# Altium integrated library ST Audio Switch.IntLib: 6 symbols
Pins are listed as number, name and electrical type; pins without a type are passive.

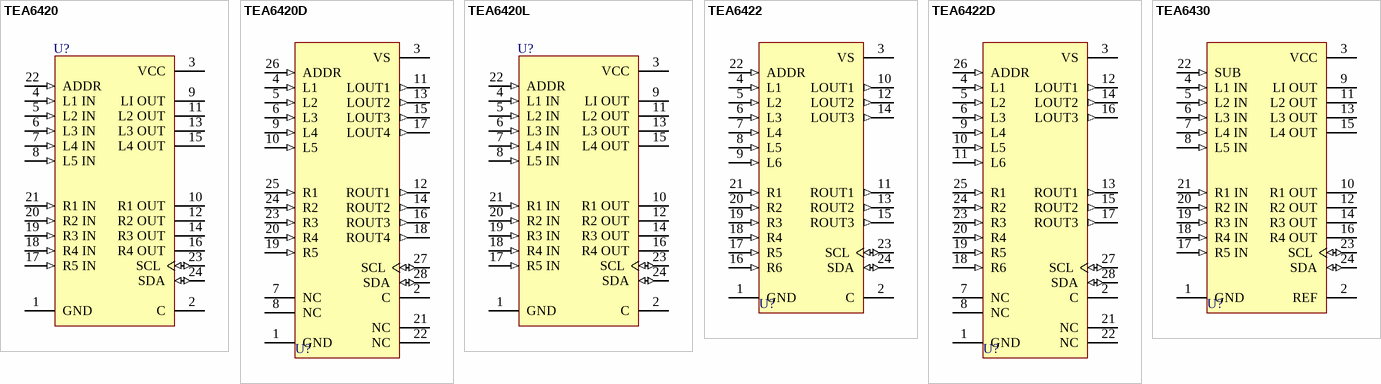
[diagram p0: symbols TEA6420 to TEA6430]

## TEA6420
designator U?
Bus-Controlled Audio Matrix; Published: 24-Aug-2001; LatestRevisionDate: 6-Jun-2005; LatestRevisionNote: Stylized 3D Model Added.; DatasheetDocument: May-1996; PackageDocument: Nov-1999; PackageReference: PSDIP24; Publisher: Altium Limited; ComponentLink1Description: Manufacturer Link; ComponentLink1URL: http://www.st.com/; ComponentLink2Description: Datasheet; ComponentLink2URL: http://www.st.com/stonline/products/literature/ds/9764/tea6420.pdf
footprint PSDIP24 (DIP; 24 Leads; Row Spacing 7.62 mm; Pitch 1.778 mm)
3D model PSDIP24 (DIP; 24 Leads; Row Spacing 7.62 mm; Pitch 1.778 mm)
pins: 1 GND (power), 2 C, 3 VCC (power), 4 L1 IN (in), 5 L2 IN (in), 6 L3 IN (in), 7 L4 IN (in), 8 L5 IN (in), 9 LI OUT (hiz), 10 R1 OUT (hiz), 11 L2 OUT (hiz), 12 R2 OUT (hiz), 13 L3 OUT (hiz), 14 R3 OUT (hiz), 15 L4 OUT (hiz), 16 R4 OUT (hiz), 17 R5 IN (in), 18 R4 IN (in), 19 R3 IN (in), 20 R2 IN (in), 21 R1 IN (in), 22 ADDR (in), 23 SCL (io), 24 SDA (io)

## TEA6420D
designator U?
Bus-Controlled Audio Matrix; Published: 24-Aug-2001; LatestRevisionDate: 6-Jun-2005; LatestRevisionNote: Stylized 3D Model Added.; DatasheetDocument: May-1996; PackageDocument: Jul-2001; PackageReference: SO28; Publisher: Altium Limited; Code_IPC: SO28W; ComponentLink1Description: Manufacturer Link; ComponentLink1URL: http://www.st.com/; ComponentLink2Description: Datasheet; ComponentLink2URL: http://www.st.com/stonline/products/literature/ds/9764/tea6420.pdf
footprint SO28 (Small Outline, Plastic; 28 Leads; Body Width 7.5 mm; Pitch 1.27 mm)
3D model SO28 (Small Outline, Plastic; 28 Leads; Body Width 7.5 mm; Pitch 1.27 mm)
pins: 1 GND (power), 2 C, 3 VS (power), 4 L1 (in), 5 L2 (in), 6 L3 (in), 7 NC, 8 NC, 9 L4 (in), 10 L5 (in), 11 LOUT1 (out), 12 ROUT1 (out), 13 LOUT2 (out), 14 ROUT2 (out), 15 LOUT3 (out), 16 ROUT3 (out), 17 LOUT4 (out), 18 ROUT4 (out), 19 R5 (in), 20 R4 (in), 21 NC, 22 NC, 23 R3 (in), 24 R2 (in), 25 R1 (in), 26 ADDR (in), 27 SCL (io), 28 SDA (io)

## TEA6420L
designator U?
Bus-Controlled Audio Matrix; Published: 24-Aug-2001; LatestRevisionDate: 6-Jun-2005; LatestRevisionNote: Stylized 3D Model Added.; DatasheetDocument: Aug-1992; PackageDocument: Nov-1999; PackageReference: PSDIP24; Publisher: Altium Limited; ComponentLink1Description: Manufacturer Link; ComponentLink1URL: http://www.st.com/
footprint PSDIP24 (DIP; 24 Leads; Row Spacing 7.62 mm; Pitch 1.778 mm)
3D model PSDIP24 (DIP; 24 Leads; Row Spacing 7.62 mm; Pitch 1.778 mm)
pins: 1 GND (power), 2 C, 3 VCC (power), 4 L1 IN (in), 5 L2 IN (in), 6 L3 IN (in), 7 L4 IN (in), 8 L5 IN (in), 9 LI OUT (hiz), 10 R1 OUT (hiz), 11 L2 OUT (hiz), 12 R2 OUT (hiz), 13 L3 OUT (hiz), 14 R3 OUT (hiz), 15 L4 OUT (hiz), 16 R4 OUT (hiz), 17 R5 IN (in), 18 R4 IN (in), 19 R3 IN (in), 20 R2 IN (in), 21 R1 IN (in), 22 ADDR (in), 23 SCL (io), 24 SDA (io)

## TEA6422
designator U?
Bus-Controlled Audio Matrix; Published: 24-Aug-2001; LatestRevisionDate: 6-Jun-2005; LatestRevisionNote: Stylized 3D Model Added.; DatasheetDocument: May-1996; PackageDocument: Nov-1999; PackageReference: PSDIP24; Publisher: Altium Limited; ComponentLink1Description: Manufacturer Link; ComponentLink1URL: http://www.st.com/; ComponentLink2Description: Datasheet; ComponentLink2URL: http://www.st.com/stonline/products/literature/ds/9788/tea6422.pdf
footprint PSDIP24 (DIP; 24 Leads; Row Spacing 7.62 mm; Pitch 1.778 mm)
3D model PSDIP24 (DIP; 24 Leads; Row Spacing 7.62 mm; Pitch 1.778 mm)
pins: 1 GND (power), 2 C, 3 VS (power), 4 L1 (in), 5 L2 (in), 6 L3 (in), 7 L4 (in), 8 L5 (in), 9 L6 (in), 10 LOUT1 (out), 11 ROUT1 (out), 12 LOUT2 (out), 13 ROUT2 (out), 14 LOUT3 (out), 15 ROUT3 (out), 16 R6 (in), 17 R5 (in), 18 R4 (in), 19 R3 (in), 20 R2 (in), 21 R1 (in), 22 ADDR (in), 23 SCL (io), 24 SDA (io)

## TEA6422D
designator U?
Bus-Controlled Audio Matrix; Published: 24-Aug-2001; LatestRevisionDate: 6-Jun-2005; LatestRevisionNote: Stylized 3D Model Added.; DatasheetDocument: May-1996; PackageDocument: Jul-2001; PackageReference: SO28; Publisher: Altium Limited; Code_IPC: SO28W; ComponentLink1Description: Manufacturer Link; ComponentLink1URL: http://www.st.com/; ComponentLink2Description: Datasheet; ComponentLink2URL: http://www.st.com/stonline/products/literature/ds/9788/tea6422.pdf
footprint SO28 (Small Outline, Plastic; 28 Leads; Body Width 7.5 mm; Pitch 1.27 mm)
3D model SO28 (Small Outline, Plastic; 28 Leads; Body Width 7.5 mm; Pitch 1.27 mm)
pins: 1 GND (power), 2 C, 3 VS (power), 4 L1 (in), 5 L2 (in), 6 L3 (in), 7 NC, 8 NC, 9 L4 (in), 10 L5 (in), 11 L6 (in), 12 LOUT1 (out), 13 ROUT1 (out), 14 LOUT2 (out), 15 ROUT2 (out), 16 LOUT3 (out), 17 ROUT3 (out), 18 R6 (in), 19 R5 (in), 20 R4 (in), 21 NC, 22 NC, 23 R3 (in), 24 R2 (in), 25 R1 (in), 26 ADDR (in), 27 SCL (io), 28 SDA (io)

## TEA6430
designator U?
Audio Cellular Matrix; Published: 24-Aug-2001; LatestRevisionDate: 6-Jun-2005; LatestRevisionNote: Stylized 3D Model Added.; DatasheetDocument: May-1996; PackageDocument: Nov-1999; PackageReference: PSDIP24; Publisher: Altium Limited; ComponentLink1Description: Manufacturer Link; ComponentLink1URL: http://www.st.com/
footprint PSDIP24 (DIP; 24 Leads; Row Spacing 7.62 mm; Pitch 1.778 mm)
3D model PSDIP24 (DIP; 24 Leads; Row Spacing 7.62 mm; Pitch 1.778 mm)
pins: 1 GND (power), 2 REF, 3 VCC (power), 4 L1 IN (in), 5 L2 IN (in), 6 L3 IN (in), 7 L4 IN (in), 8 L5 IN (in), 9 LI OUT (hiz), 10 R1 OUT (hiz), 11 L2 OUT (hiz), 12 R2 OUT (hiz), 13 L3 OUT (hiz), 14 R3 OUT (hiz), 15 L4 OUT (hiz), 16 R4 OUT (hiz), 17 R5 IN (in), 18 R4 IN (in), 19 R3 IN (in), 20 R2 IN (in), 21 R1 IN (in), 22 SUB (in), 23 SCL (io), 24 SDA (io)